# Altium footprint library Microcontrollers Pad Lib.PcbLib: 5 footprints
Each footprint in its own frame and in the unit in brackets; x right, y up, seen from the top. Pads: shape width x height; smd on the part's side, far side on the other; paste and mask are expansions set on the pad; w line width, h text height; cw(c..) or ccw(c..) is an arc to the next point about the centre after c.
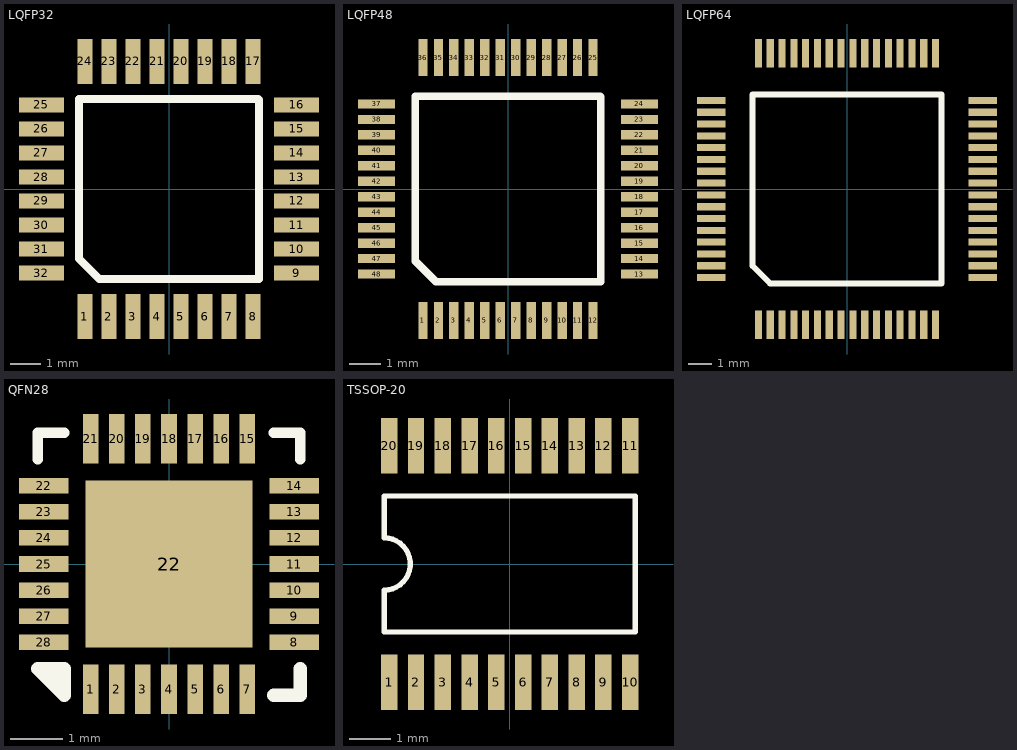
[diagram p0: the footprints below, top view; thin cyan lines are the x and y axes]

## LQFP32 [mm]
height 1.6
pads (32):
  rect 0.5x1.5 smd: 1(-2.8,-4.25) 2(-2,-4.25) 3(-1.2,-4.25) 4(-0.4,-4.25) 5(0.4,-4.25) 6(1.2,-4.25) 7(2,-4.25) 8(2.8,-4.25) 17(2.8,4.25) 18(2,4.25) 19(1.2,4.25) 20(0.4,4.25) 21(-0.4,4.25) 22(-1.2,4.25) 23(-2,4.25) 24(-2.8,4.25)
  rect 1.5x0.5 smd: 9(4.25,-2.8) 10(4.25,-2) 11(4.25,-1.2) 12(4.25,-0.4) 13(4.25,0.4) 14(4.25,1.2) 15(4.25,2) 16(4.25,2.8) 25(-4.25,2.8) 26(-4.25,2) 27(-4.25,1.2) 28(-4.25,0.4) 29(-4.25,-0.4) 30(-4.25,-1.2) 31(-4.25,-2) 32(-4.25,-2.8)
Top Overlay:
  lines w0.254: -3,-2.325 -2.325,-3 3,-3 3,2.975 2.975,3 -3,3 -3,-2.325
3D body "LQFP32.STEP": height 1.5, standoff 0.02, extent -4.5,-4.5 4.5,4.5

## LQFP48 [mm]
height 1.6
pads (48):
  rect 0.3x1.2 smd: 1(-2.75,-4.25) 2(-2.25,-4.25) 3(-1.75,-4.25) 4(-1.25,-4.25) 5(-0.75,-4.25) 6(-0.25,-4.25) 7(0.25,-4.25) 8(0.75,-4.25) 9(1.25,-4.25) 10(1.75,-4.25) 11(2.25,-4.25) 12(2.75,-4.25) 25(2.75,4.25) 26(2.25,4.25) 27(1.75,4.25) 28(1.25,4.25) 29(0.75,4.25) 30(0.25,4.25) 31(-0.25,4.25) 32(-0.75,4.25) 33(-1.25,4.25) 34(-1.75,4.25) 35(-2.25,4.25) 36(-2.75,4.25)
  rect 1.2x0.3 smd: 13(4.25,-2.75) 14(4.25,-2.25) 15(4.25,-1.75) 16(4.25,-1.25) 17(4.25,-0.75) 18(4.25,-0.25) 19(4.25,0.25) 20(4.25,0.75) 21(4.25,1.25) 22(4.25,1.75) 23(4.25,2.25) 24(4.25,2.75) 37(-4.25,2.75) 38(-4.25,2.25) 39(-4.25,1.75) 40(-4.25,1.25) 41(-4.25,0.75) 42(-4.25,0.25) 43(-4.25,-0.25) 44(-4.25,-0.75) 45(-4.25,-1.25) 46(-4.25,-1.75) 47(-4.25,-2.25) 48(-4.25,-2.75)
Top Overlay:
  lines w0.254: -3,-2.325 -2.325,-3 3,-3 3,2.975 2.975,3 -3,3 -3,-2.325
3D body "LQFP48.STEP": height 1.45, standoff 0, extent -4.5,-4.5 4.5,4.5

## LQFP64 [mm]
height 1.6
pads (64):
  rect 0.3x1.2 smd: 1(-3.75,-5.75) 2(-3.25,-5.75) 3(-2.75,-5.75) 4(-2.25,-5.75) 5(-1.75,-5.75) 6(-1.25,-5.75) 7(-0.75,-5.75) 8(-0.25,-5.75) 9(0.25,-5.75) 10(0.75,-5.75) 11(1.25,-5.75) 12(1.75,-5.75) 13(2.25,-5.75) 14(2.75,-5.75) 15(3.25,-5.75) 16(3.75,-5.75) 33(3.75,5.75) 34(3.25,5.75) 35(2.75,5.75) 36(2.25,5.75) 37(1.75,5.75) 38(1.25,5.75) 39(0.75,5.75) 40(0.25,5.75) 41(-0.25,5.75) 42(-0.75,5.75) 43(-1.25,5.75) 44(-1.75,5.75) 45(-2.25,5.75) 46(-2.75,5.75) 47(-3.25,5.75) 48(-3.75,5.75)
  rect 1.2x0.3 smd: 17(5.75,-3.75) 18(5.75,-3.25) 19(5.75,-2.75) 20(5.75,-2.25) 21(5.75,-1.75) 22(5.75,-1.25) 23(5.75,-0.75) 24(5.75,-0.25) 25(5.75,0.25) 26(5.75,0.75) 27(5.75,1.25) 28(5.75,1.75) 29(5.75,2.25) 30(5.75,2.75) 31(5.75,3.25) 32(5.75,3.75) 49(-5.75,3.75) 50(-5.75,3.25) 51(-5.75,2.75) 52(-5.75,2.25) 53(-5.75,1.75) 54(-5.75,1.25) 55(-5.75,0.75) 56(-5.75,0.25) 57(-5.75,-0.25) 58(-5.75,-0.75) 59(-5.75,-1.25) 60(-5.75,-1.75) 61(-5.75,-2.25) 62(-5.75,-2.75) 63(-5.75,-3.25) 64(-5.75,-3.75)
Top Overlay:
  lines w0.254: -4,-3.25 -4,4 4,4 4,-4 -3.25,-4 -4,-3.25
3D body "LQFP64.STEP": height 1.47, standoff -0.01, extent -6,-6 6,6

## QFN28 [mm]
height 0.9
pads (29):
  rect 0.3x0.95 smd: 1(-1.5,-2.4) 2(-1,-2.4) 3(-0.5,-2.4) 4(0,-2.4) 5(0.5,-2.4) 6(1,-2.4) 7(1.5,-2.4) 15(1.5,2.4) 16(1,2.4) 17(0.5,2.4) 18(0,2.4) 19(-0.5,2.4) 20(-1,2.4) 21(-1.5,2.4)
  rect 0.95x0.3 smd: 8(2.4,-1.5) 9(2.4,-1) 10(2.4,-0.5) 11(2.4,0) 12(2.4,0.5) 13(2.4,1) 14(2.4,1.5) 22(-2.4,1.5) 23(-2.4,1) 24(-2.4,0.5) 25(-2.4,0) 26(-2.4,-0.5) 27(-2.4,-1) 28(-2.4,-1.5)
  rect 3.2x3.2 smd: 22(0,0)
Top Overlay:
  region: -2.515,-2.007 -2.007,-2.007 -2.007,-2.515
  region: -2.87,-2.286
  lines w0.203: -2.515,2.007 -2.515,2.515 -2.007,2.515 ; 2.007,2.515 2.515,2.515 2.515,2.007
  lines w0.254: 2.007,-2.515 2.515,-2.515 2.515,-2.007 ; -2.515,-2.007 -2.007,-2.007 -2.007,-2.515 -2.515,-2.007
3D body: height 1.86, standoff -2, extent -4.064,3.429 -4.064,3.429
3D body: height 1.86, standoff -2, extent -4.013,-1.245 -4.013,-1.245
3D body "QFN28.STEP": height 0.9, standoff 0, extent -2.5,-2.5 2.5,2.5

## TSSOP-20 [mm]
height 1.2
pads (20):
  rect 0.4x1.35 smd: 1(-2.925,-2.875) 2(-2.275,-2.875) 3(-1.625,-2.875) 4(-0.975,-2.875) 5(-0.325,-2.875) 6(0.325,-2.875) 7(0.975,-2.875) 8(1.625,-2.875) 9(2.275,-2.875) 10(2.925,-2.875) 11(2.925,2.875) 12(2.275,2.875) 13(1.625,2.875) 14(0.975,2.875) 15(0.325,2.875) 16(-0.325,2.875) 17(-0.975,2.875) 18(-1.625,2.875) 19(-2.275,2.875) 20(-2.925,2.875)
Top Overlay:
  lines w0.127: -3.048,-1.651 -3.048,-0.635 ccw(c-3.048,0) -3.048,0.635 -3.048,1.651 3.048,1.651 3.048,-1.651 -3.048,-1.651
3D body "TSSOP-20.STEP": height 1.1, standoff 0, extent -3.25,-3.21 3.25,3.211